# Altium integrated library Linear Technology Power Management Hot Swap Controllers.IntLib: 992 symbols (part 23 of 93)
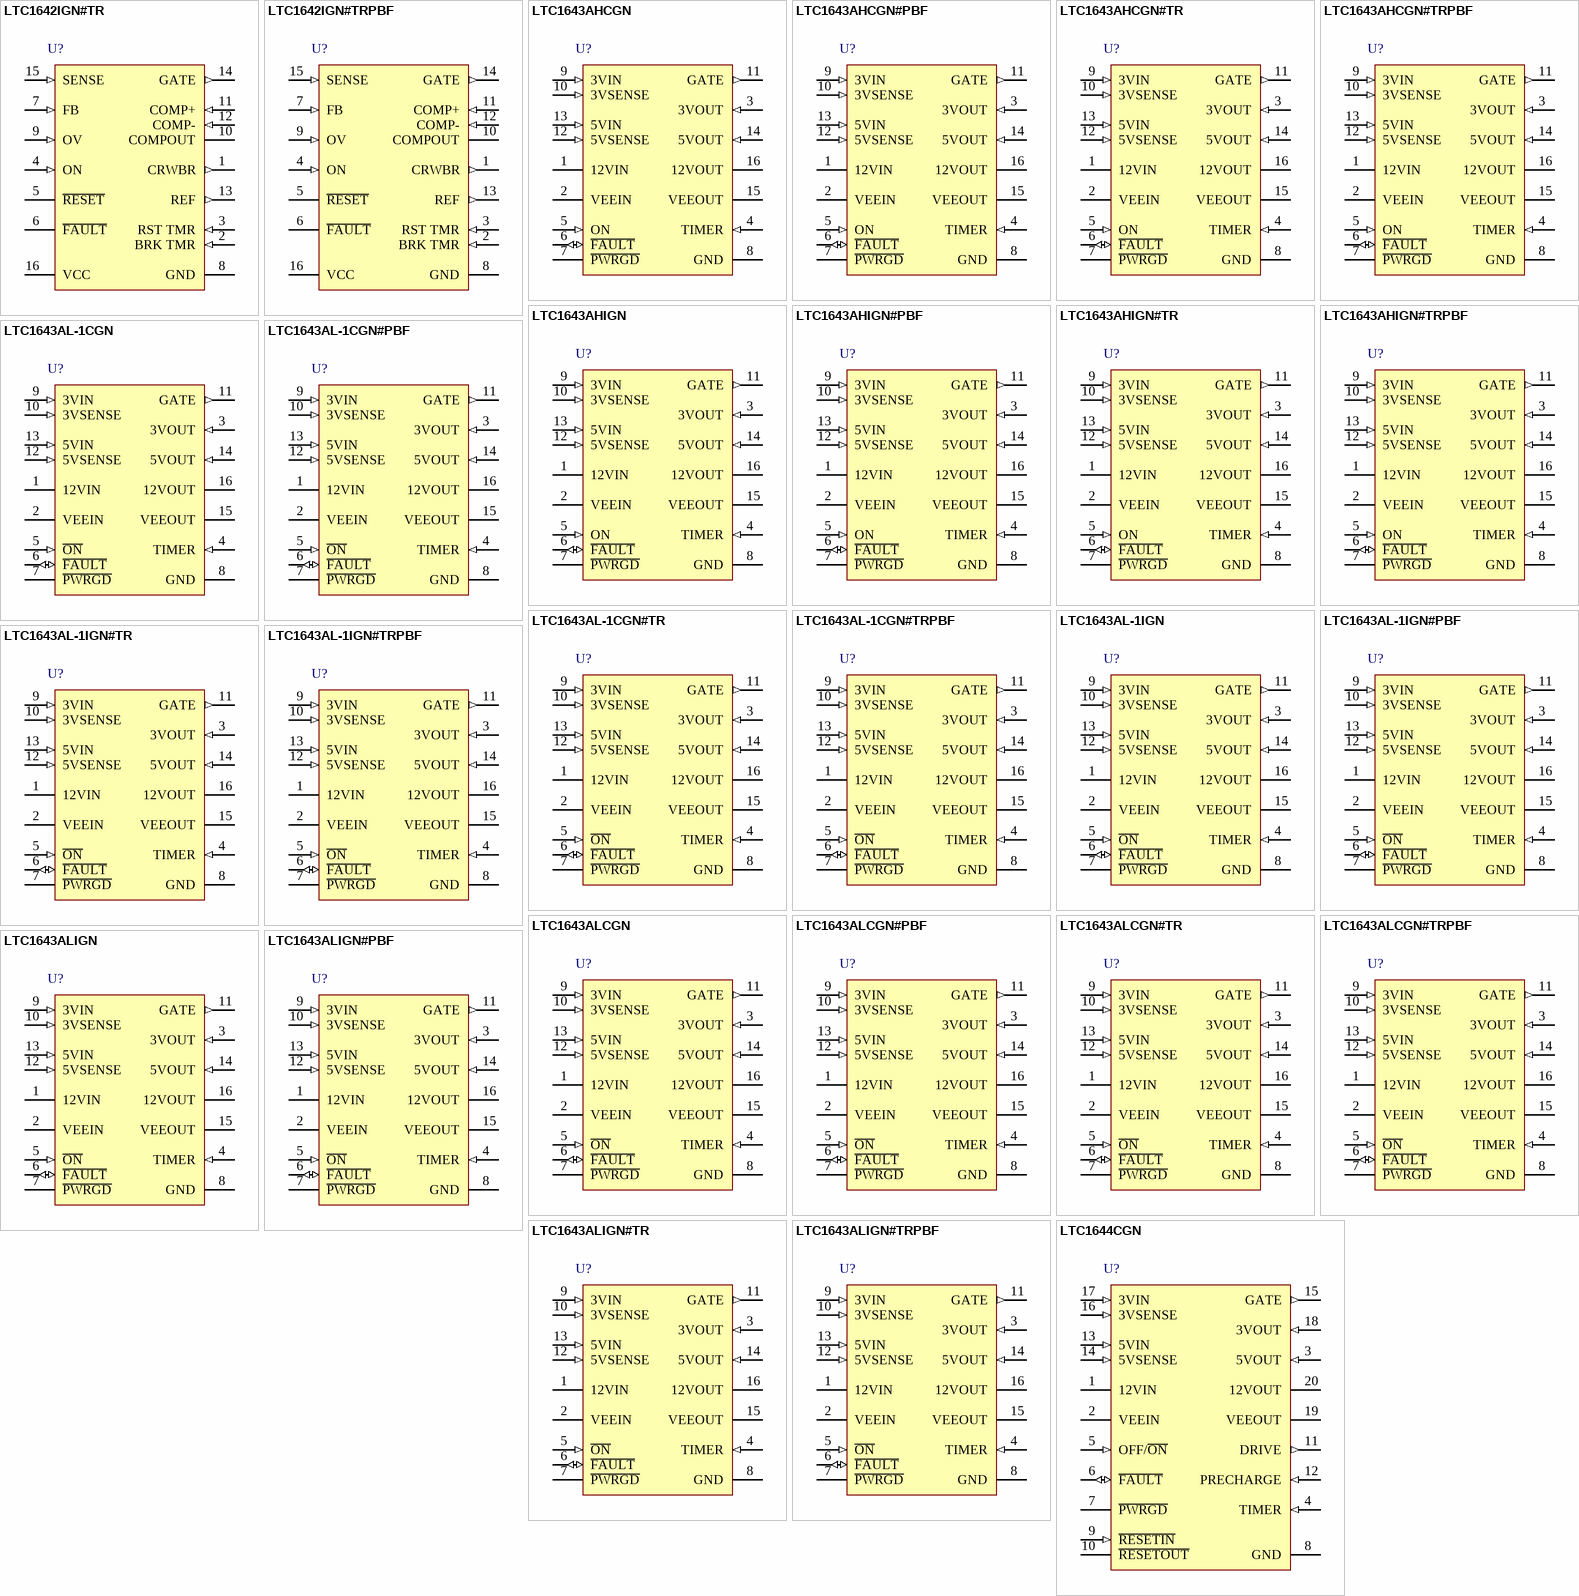
[diagram p59: symbols LTC1642IGN#TR to LTC1644CGN]

## LTC1643AHIGN#TR
designator U?
PCI-Bus Hot Swap Controller, 3.3 V, 5 V, +/-12 V Vin, 16-pin SOP (GN-16), -40 to 85 degC, Tape and Reel; Manufacturer: Linear Technology; PartNumber: LTC1643AHIGN#TR; Active Limiting: yes; Circuit Breaker Accuracy(%): 24.5; Circuit Breaker Threshold: 53 mV; Circuit Breakers(#): 4; Extended Temp: C, I; Fast Comparator: no; In-Rush Current: Active; DatasheetVersion: Rev. B; PackageVersion: Rev. B, 03/2012; PackageReference: GN-16; PackageDescription: 16-Pin Plastic SSOP, Body 4.9 x 3.9 mm, Pitch 0.635 mm; Supplier 1: Digi-Key; Supplier Part Number 1: LTC1643AHIGN#TR-ND; Fault: yes; Foldback: yes; Packing: Tape and Reel; Power Good: yes; Reset: no; RoHS: FALSE; Vin Range: 3.3 V, 5 V, +/-12 V; Mounting Technology: Surface Mount; ComponentLink1Description: Manufacturer URL; ComponentLink1URL: http://www.linear.com/; ComponentLink2Description: Datasheet; ComponentLink2URL: http://cds.linear.com/docs/en/datasheet/1643afb.pdf; ComponentLink3Description: Package Specification; ComponentLink3URL: http://cds.linear.com/docs/en/packaging/05081641_B_GN16.pdf
footprint LT-GN-16_N (SOP, 16-Leads, Body 5x4mm, Pitch 0.635mm, IPC Medium Density)
footprint LT-GN-16_L (SOP, 16-Leads, Body 5x4mm, Pitch 0.635mm, IPC High Density)
footprint LT-GN-16_M (SOP, 16-Leads, Body 5x4mm, Pitch 0.635mm, IPC Low Density)
pins: 1 12VIN (power) "12V Supply Input. It powers all the chip's internal circuitry. A 0.5ohm switch is connected between 12VIN and 12VOUT with a foldback current limit. An undervoltage lockout circuit prevents the switches from turning o(See Datasheet)", 2 VEEIN (power) "-12V Supply Input. A 1.2ohm switch is connected between VEEIN and VEEOUT with a foldback current limit.", 3 3VOUT (in) "Analog Input. Used to monitor the 3.3V output supply voltage. The P\W\R\G\D\ signal cannot go low until the 3VOUT pin exceeds 2.9V typically.", 4 TIMER (in) "Analog Current Fault Inhibit Timing Input. Connect a capacitor from TIMER to GND. With the chip turned off (ON = GND or O\N\ = High) or the internal circuit breaker tripped (F\A\U\L\T\ = GND), the TIMER pin is internally (See Datasheet)", 5 ON (in) "Digital Input.", 6 ~{FAULT} (io) "Open-Drain Digital I/O. F\A\U\L\T\ is pulled low when a current limit fault is detected. Current limit faults are ignored while the voltage at the TIMER pin is less than 12VIN - 0.9V. Once the TIMER cycle is complete, (See Datasheet)", 7 ~{PWRGD} (oc) "Open-Drain Digital Power-Good Output. P\W\R\G\D\ remains low while V12VOUT >= 11.4V, V3VOUT >= 3V, V5VOUT >= 4.75V and VEEOUT =< - 10.8V. The LTC1643AL-1 has the power good comparators connected to the 12VOUT and VEEOUT pins (See Datasheet)", 8 GND (power) "Chip Ground.", 9 3VIN (in) "3.3V Supply Sense Input. An undervoltage lockout circuit prevents the switches from turning on when the voltage at the 3VIN pin is less than 2.5V typically. If no 3.3V input supply is available, tie 3VIN to the 5VIN pin.", 10 3VSENSE (in) "The 3.3V Current Limit Set Pin. With a sense resistor placed in the supply path between 3VIN and 3VSENSE, the GATE pin voltage will be adjusted to maintain a constant voltage across the sense resistor and a constant current (See Datasheet)", 11 GATE (out) "High Side Gate Drive for the External N-Channel Pass Transistors. Requires an external series RC network for the current limit loop compensation and setting the minimum ramp-up rate. During power-up, the slope of the voltage (See Datasheet)", 12 5VSENSE (in) "5V Current Limit Set Pin. With a sense resistor placed in the supply path between 5VIN and 5VSENSE, the GATE pin voltage will be adjusted to maintain a constant voltage across the sense resistor and a constant current (See Datasheet)", 13 5VIN (in) "Analog Input. Used to monitor the 5V input supply voltage. An undervoltage lockout circuit prevents the switches from turning on when the voltage at the 5VIN pin is less than 2.5V typically.", 14 5VOUT (in) "Analog Input. Used to monitor the 5V output supply voltage. The P\W\R\G\D\ signal cannot go low until the 5VOUT pin exceeds 4.65V typically.", 15 VEEOUT (power) "-12V Supply Output. A 1.2ohm switch is connected between VEEIN and VEEOUT. VEEOUT must exceed -10.8V before the P\W\R\G\D\ signal can go high on the LTC1643AH and LTC1643AL.", 16 12VOUT (power) "12V Supply Output. A 0.5ohm switch is connected between 12VIN and 12VOUT. 12VOUT must exceed 11.4V before the P\W\R\G\D\ signal can go high on the LTC1643AH and LTC1643AL."

## LTC1643AHIGN#TRPBF
designator U?
PCI-Bus Hot Swap Controller, 3.3 V, 5 V, +/-12 V Vin, 16-pin SOP (GN-16), -40 to 85 degC, Pb-Free, Tape and Reel; Manufacturer: Linear Technology; PartNumber: LTC1643AHIGN#TRPBF; Active Limiting: yes; Circuit Breaker Accuracy(%): 24.5; Circuit Breaker Threshold: 53 mV; Circuit Breakers(#): 4; Extended Temp: C, I; Fast Comparator: no; In-Rush Current: Active; DatasheetVersion: Rev. B; PackageVersion: Rev. B, 03/2012; PackageReference: GN-16; PackageDescription: 16-Pin Plastic SSOP, Body 4.9 x 3.9 mm, Pitch 0.635 mm; Supplier 1: Digi-Key; Supplier Part Number 1: LTC1643AHIGN#TRPBF-ND; Fault: yes; Foldback: yes; Packing: Tape and Reel; Power Good: yes; Reset: no; RoHS: TRUE; Vin Range: 3.3 V, 5 V, +/-12 V; Mounting Technology: Surface Mount; ComponentLink1Description: Manufacturer URL; ComponentLink1URL: http://www.linear.com/; ComponentLink2Description: Datasheet; ComponentLink2URL: http://cds.linear.com/docs/en/datasheet/1643afb.pdf; ComponentLink3Description: Package Specification; ComponentLink3URL: http://cds.linear.com/docs/en/packaging/05081641_B_GN16.pdf
footprint LT-GN-16_N (SOP, 16-Leads, Body 5x4mm, Pitch 0.635mm, IPC Medium Density)
footprint LT-GN-16_L (SOP, 16-Leads, Body 5x4mm, Pitch 0.635mm, IPC High Density)
footprint LT-GN-16_M (SOP, 16-Leads, Body 5x4mm, Pitch 0.635mm, IPC Low Density)
pins: 1 12VIN (power) "12V Supply Input. It powers all the chip's internal circuitry. A 0.5ohm switch is connected between 12VIN and 12VOUT with a foldback current limit. An undervoltage lockout circuit prevents the switches from turning o(See Datasheet)", 2 VEEIN (power) "-12V Supply Input. A 1.2ohm switch is connected between VEEIN and VEEOUT with a foldback current limit.", 3 3VOUT (in) "Analog Input. Used to monitor the 3.3V output supply voltage. The P\W\R\G\D\ signal cannot go low until the 3VOUT pin exceeds 2.9V typically.", 4 TIMER (in) "Analog Current Fault Inhibit Timing Input. Connect a capacitor from TIMER to GND. With the chip turned off (ON = GND or O\N\ = High) or the internal circuit breaker tripped (F\A\U\L\T\ = GND), the TIMER pin is internally (See Datasheet)", 5 ON (in) "Digital Input.", 6 ~{FAULT} (io) "Open-Drain Digital I/O. F\A\U\L\T\ is pulled low when a current limit fault is detected. Current limit faults are ignored while the voltage at the TIMER pin is less than 12VIN - 0.9V. Once the TIMER cycle is complete, (See Datasheet)", 7 ~{PWRGD} (oc) "Open-Drain Digital Power-Good Output. P\W\R\G\D\ remains low while V12VOUT >= 11.4V, V3VOUT >= 3V, V5VOUT >= 4.75V and VEEOUT =< - 10.8V. The LTC1643AL-1 has the power good comparators connected to the 12VOUT and VEEOUT pins (See Datasheet)", 8 GND (power) "Chip Ground.", 9 3VIN (in) "3.3V Supply Sense Input. An undervoltage lockout circuit prevents the switches from turning on when the voltage at the 3VIN pin is less than 2.5V typically. If no 3.3V input supply is available, tie 3VIN to the 5VIN pin.", 10 3VSENSE (in) "The 3.3V Current Limit Set Pin. With a sense resistor placed in the supply path between 3VIN and 3VSENSE, the GATE pin voltage will be adjusted to maintain a constant voltage across the sense resistor and a constant current (See Datasheet)", 11 GATE (out) "High Side Gate Drive for the External N-Channel Pass Transistors. Requires an external series RC network for the current limit loop compensation and setting the minimum ramp-up rate. During power-up, the slope of the voltage (See Datasheet)", 12 5VSENSE (in) "5V Current Limit Set Pin. With a sense resistor placed in the supply path between 5VIN and 5VSENSE, the GATE pin voltage will be adjusted to maintain a constant voltage across the sense resistor and a constant current (See Datasheet)", 13 5VIN (in) "Analog Input. Used to monitor the 5V input supply voltage. An undervoltage lockout circuit prevents the switches from turning on when the voltage at the 5VIN pin is less than 2.5V typically.", 14 5VOUT (in) "Analog Input. Used to monitor the 5V output supply voltage. The P\W\R\G\D\ signal cannot go low until the 5VOUT pin exceeds 4.65V typically.", 15 VEEOUT (power) "-12V Supply Output. A 1.2ohm switch is connected between VEEIN and VEEOUT. VEEOUT must exceed -10.8V before the P\W\R\G\D\ signal can go high on the LTC1643AH and LTC1643AL.", 16 12VOUT (power) "12V Supply Output. A 0.5ohm switch is connected between 12VIN and 12VOUT. 12VOUT must exceed 11.4V before the P\W\R\G\D\ signal can go high on the LTC1643AH and LTC1643AL."

## LTC1643AL-1CGN
designator U?
PCI-Bus Hot Swap Controller, 3.3 V, 5 V, +/-12 V Vin, 16-pin SOP (GN-16), 0 to 70 degC; Manufacturer: Linear Technology; PartNumber: LTC1643AL-1CGN; Active Limiting: yes; Circuit Breaker Accuracy(%): 24.5; Circuit Breaker Threshold: 53 mV; Circuit Breakers(#): 4; Extended Temp: C, I; Fast Comparator: no; In-Rush Current: Active; DatasheetVersion: Rev. B; PackageVersion: Rev. B, 03/2012; PackageReference: GN-16; PackageDescription: 16-Pin Plastic SSOP, Body 4.9 x 3.9 mm, Pitch 0.635 mm; Supplier 1: Digi-Key; Supplier Part Number 1: LTC1643AL-1CGN-ND; Fault: yes; Foldback: yes; Power Good: yes; Reset: no; RoHS: FALSE; Vin Range: 3.3 V, 5 V, +/-12 V; Mounting Technology: Surface Mount; ComponentLink1Description: Manufacturer URL; ComponentLink1URL: http://www.linear.com/; ComponentLink2Description: Datasheet; ComponentLink2URL: http://cds.linear.com/docs/en/datasheet/1643afb.pdf; ComponentLink3Description: Package Specification; ComponentLink3URL: http://cds.linear.com/docs/en/packaging/05081641_B_GN16.pdf
footprint LT-GN-16_N (SOP, 16-Leads, Body 5x4mm, Pitch 0.635mm, IPC Medium Density)
footprint LT-GN-16_L (SOP, 16-Leads, Body 5x4mm, Pitch 0.635mm, IPC High Density)
footprint LT-GN-16_M (SOP, 16-Leads, Body 5x4mm, Pitch 0.635mm, IPC Low Density)
pins: 1 12VIN (power) "12V Supply Input. It powers all the chip's internal circuitry. A 0.5ohm switch is connected between 12VIN and 12VOUT with a foldback current limit. An undervoltage lockout circuit prevents the switches from turning o(See Datasheet)", 2 VEEIN (power) "-12V Supply Input. A 1.2ohm switch is connected between VEEIN and VEEOUT with a foldback current limit.", 3 3VOUT (in) "Analog Input. Used to monitor the 3.3V output supply voltage. The P\W\R\G\D\ signal cannot go low until the 3VOUT pin exceeds 2.9V typically.", 4 TIMER (in) "Analog Current Fault Inhibit Timing Input. Connect a capacitor from TIMER to GND. With the chip turned off (ON = GND or O\N\ = High) or the internal circuit breaker tripped (F\A\U\L\T\ = GND), the TIMER pin is internally (See Datasheet)", 5 ~{ON} (in) "Digital Input.The LTC1643AL/LTC1643AL-1 have an active low enable, O\N\, and the LTC1643AH has an active high enable, ON. When the ON pin is pulled high or the O\N\ pin pulled low, the GATE pin is pulled high by a 62uA (See Datasheet)", 6 ~{FAULT} (io) "Open-Drain Digital I/O. F\A\U\L\T\ is pulled low when a current limit fault is detected. Current limit faults are ignored while the voltage at the TIMER pin is less than 12VIN - 0.9V. Once the TIMER cycle is complete, (See Datasheet)", 7 ~{PWRGD} (oc) "Open-Drain Digital Power-Good Output. P\W\R\G\D\ remains low while V12VOUT>= 11.4V, V3VOUT>= 3V, V5VOUT >= 4.75V and VEEOUT =< -10.8V. The LTC1643AL-1 has the power good comparators connected to the 12VOUT and VEEOUT pins (See Datasheet)", 8 GND (power) "Chip Ground.", 9 3VIN (in) "3.3V Supply Sense Input. An undervoltage lockout circuit prevents the switches from turning on when the voltage at the 3VIN pin is less than 2.5V typically. If no 3.3V input supply is available, tie 3VIN to the 5VIN pin.", 10 3VSENSE (in) "The 3.3V Current Limit Set Pin. With a sense resistor placed in the supply path between 3VIN and 3VSENSE, the GATE pin voltage will be adjusted to maintain a constant voltage across the sense resistor and a constant current (See Datasheet)", 11 GATE (out) "High Side Gate Drive for the External N-Channel Pass Transistors. Requires an external series RC network for the current limit loop compensation and setting the minimum ramp-up rate. During power-up, the slope of the voltage (See Datasheet)", 12 5VSENSE (in) "5V Current Limit Set Pin. With a sense resistor placed in the supply path between 5VIN and 5VSENSE, the GATE pin voltage will be adjusted to maintain a constant voltage across the sense resistor and a constant current (See Datasheet)", 13 5VIN (in) "Analog Input. Used to monitor the 5V input supply voltage. An undervoltage lockout circuit prevents the switches from turning on when the voltage at the 5VIN pin is less than 2.5V typically.", 14 5VOUT (in) "Analog Input. Used to monitor the 5V output supply voltage. The P\W\R\G\D\ signal cannot go low until the 5VOUT pin exceeds 4.65V typically.", 15 VEEOUT (power) "-12V Supply Output. A 1.2ohm switch is connected between VEEIN and VEEOUT. VEEOUT must exceed -10.8V before the P\W\R\G\D\ signal can go high on the LTC1643AH and LTC1643AL.", 16 12VOUT (power) "12V Supply Output. A 0.5ohm switch is connected between 12VIN and 12VOUT. 12VOUT must exceed 11.4V before the P\W\R\G\D\ signal can go high on the LTC1643AH and LTC1643AL."

## LTC1643AL-1CGN#PBF
designator U?
PCI-Bus Hot Swap Controller, 3.3 V, 5 V, +/-12 V Vin, 16-pin SOP (GN-16), 0 to 70 degC, Pb-Free; Manufacturer: Linear Technology; PartNumber: LTC1643AL-1CGN#PBF; Active Limiting: yes; Circuit Breaker Accuracy(%): 24.5; Circuit Breaker Threshold: 53 mV; Circuit Breakers(#): 4; Extended Temp: C, I; Fast Comparator: no; In-Rush Current: Active; DatasheetVersion: Rev. B; PackageVersion: Rev. B, 03/2012; PackageReference: GN-16; PackageDescription: 16-Pin Plastic SSOP, Body 4.9 x 3.9 mm, Pitch 0.635 mm; Supplier 1: Digi-Key; Supplier Part Number 1: LTC1643AL-1CGN#PBF-ND; Supplier 2: Farnell; Supplier Part Number 2: 2295319; Fault: yes; Foldback: yes; Power Good: yes; Reset: no; RoHS: TRUE; Vin Range: 3.3 V, 5 V, +/-12 V; Mounting Technology: Surface Mount; ComponentLink1Description: Manufacturer URL; ComponentLink1URL: http://www.linear.com/; ComponentLink2Description: Datasheet; ComponentLink2URL: http://cds.linear.com/docs/en/datasheet/1643afb.pdf; ComponentLink3Description: Package Specification; ComponentLink3URL: http://cds.linear.com/docs/en/packaging/05081641_B_GN16.pdf
footprint LT-GN-16_N (SOP, 16-Leads, Body 5x4mm, Pitch 0.635mm, IPC Medium Density)
footprint LT-GN-16_L (SOP, 16-Leads, Body 5x4mm, Pitch 0.635mm, IPC High Density)
footprint LT-GN-16_M (SOP, 16-Leads, Body 5x4mm, Pitch 0.635mm, IPC Low Density)
pins: 1 12VIN (power) "12V Supply Input. It powers all the chip's internal circuitry. A 0.5ohm switch is connected between 12VIN and 12VOUT with a foldback current limit. An undervoltage lockout circuit prevents the switches from turning o(See Datasheet)", 2 VEEIN (power) "-12V Supply Input. A 1.2ohm switch is connected between VEEIN and VEEOUT with a foldback current limit.", 3 3VOUT (in) "Analog Input. Used to monitor the 3.3V output supply voltage. The P\W\R\G\D\ signal cannot go low until the 3VOUT pin exceeds 2.9V typically.", 4 TIMER (in) "Analog Current Fault Inhibit Timing Input. Connect a capacitor from TIMER to GND. With the chip turned off (ON = GND or O\N\ = High) or the internal circuit breaker tripped (F\A\U\L\T\ = GND), the TIMER pin is internally (See Datasheet)", 5 ~{ON} (in) "Digital Input.The LTC1643AL/LTC1643AL-1 have an active low enable, O\N\, and the LTC1643AH has an active high enable, ON. When the ON pin is pulled high or the O\N\ pin pulled low, the GATE pin is pulled high by a 62uA (See Datasheet)", 6 ~{FAULT} (io) "Open-Drain Digital I/O. F\A\U\L\T\ is pulled low when a current limit fault is detected. Current limit faults are ignored while the voltage at the TIMER pin is less than 12VIN - 0.9V. Once the TIMER cycle is complete, (See Datasheet)", 7 ~{PWRGD} (oc) "Open-Drain Digital Power-Good Output. P\W\R\G\D\ remains low while V12VOUT>= 11.4V, V3VOUT>= 3V, V5VOUT >= 4.75V and VEEOUT =< -10.8V. The LTC1643AL-1 has the power good comparators connected to the 12VOUT and VEEOUT pins (See Datasheet)", 8 GND (power) "Chip Ground.", 9 3VIN (in) "3.3V Supply Sense Input. An undervoltage lockout circuit prevents the switches from turning on when the voltage at the 3VIN pin is less than 2.5V typically. If no 3.3V input supply is available, tie 3VIN to the 5VIN pin.", 10 3VSENSE (in) "The 3.3V Current Limit Set Pin. With a sense resistor placed in the supply path between 3VIN and 3VSENSE, the GATE pin voltage will be adjusted to maintain a constant voltage across the sense resistor and a constant current (See Datasheet)", 11 GATE (out) "High Side Gate Drive for the External N-Channel Pass Transistors. Requires an external series RC network for the current limit loop compensation and setting the minimum ramp-up rate. During power-up, the slope of the voltage (See Datasheet)", 12 5VSENSE (in) "5V Current Limit Set Pin. With a sense resistor placed in the supply path between 5VIN and 5VSENSE, the GATE pin voltage will be adjusted to maintain a constant voltage across the sense resistor and a constant current (See Datasheet)", 13 5VIN (in) "Analog Input. Used to monitor the 5V input supply voltage. An undervoltage lockout circuit prevents the switches from turning on when the voltage at the 5VIN pin is less than 2.5V typically.", 14 5VOUT (in) "Analog Input. Used to monitor the 5V output supply voltage. The P\W\R\G\D\ signal cannot go low until the 5VOUT pin exceeds 4.65V typically.", 15 VEEOUT (power) "-12V Supply Output. A 1.2ohm switch is connected between VEEIN and VEEOUT. VEEOUT must exceed -10.8V before the P\W\R\G\D\ signal can go high on the LTC1643AH and LTC1643AL.", 16 12VOUT (power) "12V Supply Output. A 0.5ohm switch is connected between 12VIN and 12VOUT. 12VOUT must exceed 11.4V before the P\W\R\G\D\ signal can go high on the LTC1643AH and LTC1643AL."

## LTC1643AL-1CGN#TR
designator U?
PCI-Bus Hot Swap Controller, 3.3 V, 5 V, +/-12 V Vin, 16-pin SOP (GN-16), 0 to 70 degC, Tape and Reel; Manufacturer: Linear Technology; PartNumber: LTC1643AL-1CGN#TR; Active Limiting: yes; Circuit Breaker Accuracy(%): 24.5; Circuit Breaker Threshold: 53 mV; Circuit Breakers(#): 4; Extended Temp: C, I; Fast Comparator: no; In-Rush Current: Active; DatasheetVersion: Rev. B; PackageVersion: Rev. B, 03/2012; PackageReference: GN-16; PackageDescription: 16-Pin Plastic SSOP, Body 4.9 x 3.9 mm, Pitch 0.635 mm; Supplier 1: Digi-Key; Supplier Part Number 1: LTC1643AL-1CGN#TR-ND; Fault: yes; Foldback: yes; Packing: Tape and Reel; Power Good: yes; Reset: no; RoHS: FALSE; Vin Range: 3.3 V, 5 V, +/-12 V; Mounting Technology: Surface Mount; ComponentLink1Description: Manufacturer URL; ComponentLink1URL: http://www.linear.com/; ComponentLink2Description: Datasheet; ComponentLink2URL: http://cds.linear.com/docs/en/datasheet/1643afb.pdf; ComponentLink3Description: Package Specification; ComponentLink3URL: http://cds.linear.com/docs/en/packaging/05081641_B_GN16.pdf
footprint LT-GN-16_N (SOP, 16-Leads, Body 5x4mm, Pitch 0.635mm, IPC Medium Density)
footprint LT-GN-16_L (SOP, 16-Leads, Body 5x4mm, Pitch 0.635mm, IPC High Density)
footprint LT-GN-16_M (SOP, 16-Leads, Body 5x4mm, Pitch 0.635mm, IPC Low Density)
pins: 1 12VIN (power) "12V Supply Input. It powers all the chip's internal circuitry. A 0.5ohm switch is connected between 12VIN and 12VOUT with a foldback current limit. An undervoltage lockout circuit prevents the switches from turning o(See Datasheet)", 2 VEEIN (power) "-12V Supply Input. A 1.2ohm switch is connected between VEEIN and VEEOUT with a foldback current limit.", 3 3VOUT (in) "Analog Input. Used to monitor the 3.3V output supply voltage. The P\W\R\G\D\ signal cannot go low until the 3VOUT pin exceeds 2.9V typically.", 4 TIMER (in) "Analog Current Fault Inhibit Timing Input. Connect a capacitor from TIMER to GND. With the chip turned off (ON = GND or O\N\ = High) or the internal circuit breaker tripped (F\A\U\L\T\ = GND), the TIMER pin is internally (See Datasheet)", 5 ~{ON} (in) "Digital Input.The LTC1643AL/LTC1643AL-1 have an active low enable, O\N\, and the LTC1643AH has an active high enable, ON. When the ON pin is pulled high or the O\N\ pin pulled low, the GATE pin is pulled high by a 62uA (See Datasheet)", 6 ~{FAULT} (io) "Open-Drain Digital I/O. F\A\U\L\T\ is pulled low when a current limit fault is detected. Current limit faults are ignored while the voltage at the TIMER pin is less than 12VIN - 0.9V. Once the TIMER cycle is complete, (See Datasheet)", 7 ~{PWRGD} (oc) "Open-Drain Digital Power-Good Output. P\W\R\G\D\ remains low while V12VOUT>= 11.4V, V3VOUT>= 3V, V5VOUT >= 4.75V and VEEOUT =< -10.8V. The LTC1643AL-1 has the power good comparators connected to the 12VOUT and VEEOUT pins (See Datasheet)", 8 GND (power) "Chip Ground.", 9 3VIN (in) "3.3V Supply Sense Input. An undervoltage lockout circuit prevents the switches from turning on when the voltage at the 3VIN pin is less than 2.5V typically. If no 3.3V input supply is available, tie 3VIN to the 5VIN pin.", 10 3VSENSE (in) "The 3.3V Current Limit Set Pin. With a sense resistor placed in the supply path between 3VIN and 3VSENSE, the GATE pin voltage will be adjusted to maintain a constant voltage across the sense resistor and a constant current (See Datasheet)", 11 GATE (out) "High Side Gate Drive for the External N-Channel Pass Transistors. Requires an external series RC network for the current limit loop compensation and setting the minimum ramp-up rate. During power-up, the slope of the voltage (See Datasheet)", 12 5VSENSE (in) "5V Current Limit Set Pin. With a sense resistor placed in the supply path between 5VIN and 5VSENSE, the GATE pin voltage will be adjusted to maintain a constant voltage across the sense resistor and a constant current (See Datasheet)", 13 5VIN (in) "Analog Input. Used to monitor the 5V input supply voltage. An undervoltage lockout circuit prevents the switches from turning on when the voltage at the 5VIN pin is less than 2.5V typically.", 14 5VOUT (in) "Analog Input. Used to monitor the 5V output supply voltage. The P\W\R\G\D\ signal cannot go low until the 5VOUT pin exceeds 4.65V typically.", 15 VEEOUT (power) "-12V Supply Output. A 1.2ohm switch is connected between VEEIN and VEEOUT. VEEOUT must exceed -10.8V before the P\W\R\G\D\ signal can go high on the LTC1643AH and LTC1643AL.", 16 12VOUT (power) "12V Supply Output. A 0.5ohm switch is connected between 12VIN and 12VOUT. 12VOUT must exceed 11.4V before the P\W\R\G\D\ signal can go high on the LTC1643AH and LTC1643AL."

## LTC1643AL-1CGN#TRPBF
designator U?
PCI-Bus Hot Swap Controller, 3.3 V, 5 V, +/-12 V Vin, 16-pin SOP (GN-16), 0 to 70 degC, Pb-Free, Tape and Reel; Manufacturer: Linear Technology; PartNumber: LTC1643AL-1CGN#TRPBF; Active Limiting: yes; Circuit Breaker Accuracy(%): 24.5; Circuit Breaker Threshold: 53 mV; Circuit Breakers(#): 4; Extended Temp: C, I; Fast Comparator: no; In-Rush Current: Active; DatasheetVersion: Rev. B; PackageVersion: Rev. B, 03/2012; PackageReference: GN-16; PackageDescription: 16-Pin Plastic SSOP, Body 4.9 x 3.9 mm, Pitch 0.635 mm; Supplier 1: Digi-Key; Supplier Part Number 1: LTC1643AL-1CGN#TRPBF-ND; Fault: yes; Foldback: yes; Packing: Tape and Reel; Power Good: yes; Reset: no; RoHS: TRUE; Vin Range: 3.3 V, 5 V, +/-12 V; Mounting Technology: Surface Mount; ComponentLink1Description: Manufacturer URL; ComponentLink1URL: http://www.linear.com/; ComponentLink2Description: Datasheet; ComponentLink2URL: http://cds.linear.com/docs/en/datasheet/1643afb.pdf; ComponentLink3Description: Package Specification; ComponentLink3URL: http://cds.linear.com/docs/en/packaging/05081641_B_GN16.pdf
footprint LT-GN-16_N (SOP, 16-Leads, Body 5x4mm, Pitch 0.635mm, IPC Medium Density)
footprint LT-GN-16_L (SOP, 16-Leads, Body 5x4mm, Pitch 0.635mm, IPC High Density)
footprint LT-GN-16_M (SOP, 16-Leads, Body 5x4mm, Pitch 0.635mm, IPC Low Density)
pins: 1 12VIN (power) "12V Supply Input. It powers all the chip's internal circuitry. A 0.5ohm switch is connected between 12VIN and 12VOUT with a foldback current limit. An undervoltage lockout circuit prevents the switches from turning o(See Datasheet)", 2 VEEIN (power) "-12V Supply Input. A 1.2ohm switch is connected between VEEIN and VEEOUT with a foldback current limit.", 3 3VOUT (in) "Analog Input. Used to monitor the 3.3V output supply voltage. The P\W\R\G\D\ signal cannot go low until the 3VOUT pin exceeds 2.9V typically.", 4 TIMER (in) "Analog Current Fault Inhibit Timing Input. Connect a capacitor from TIMER to GND. With the chip turned off (ON = GND or O\N\ = High) or the internal circuit breaker tripped (F\A\U\L\T\ = GND), the TIMER pin is internally (See Datasheet)", 5 ~{ON} (in) "Digital Input.The LTC1643AL/LTC1643AL-1 have an active low enable, O\N\, and the LTC1643AH has an active high enable, ON. When the ON pin is pulled high or the O\N\ pin pulled low, the GATE pin is pulled high by a 62uA (See Datasheet)", 6 ~{FAULT} (io) "Open-Drain Digital I/O. F\A\U\L\T\ is pulled low when a current limit fault is detected. Current limit faults are ignored while the voltage at the TIMER pin is less than 12VIN - 0.9V. Once the TIMER cycle is complete, (See Datasheet)", 7 ~{PWRGD} (oc) "Open-Drain Digital Power-Good Output. P\W\R\G\D\ remains low while V12VOUT>= 11.4V, V3VOUT>= 3V, V5VOUT >= 4.75V and VEEOUT =< -10.8V. The LTC1643AL-1 has the power good comparators connected to the 12VOUT and VEEOUT pins (See Datasheet)", 8 GND (power) "Chip Ground.", 9 3VIN (in) "3.3V Supply Sense Input. An undervoltage lockout circuit prevents the switches from turning on when the voltage at the 3VIN pin is less than 2.5V typically. If no 3.3V input supply is available, tie 3VIN to the 5VIN pin.", 10 3VSENSE (in) "The 3.3V Current Limit Set Pin. With a sense resistor placed in the supply path between 3VIN and 3VSENSE, the GATE pin voltage will be adjusted to maintain a constant voltage across the sense resistor and a constant current (See Datasheet)", 11 GATE (out) "High Side Gate Drive for the External N-Channel Pass Transistors. Requires an external series RC network for the current limit loop compensation and setting the minimum ramp-up rate. During power-up, the slope of the voltage (See Datasheet)", 12 5VSENSE (in) "5V Current Limit Set Pin. With a sense resistor placed in the supply path between 5VIN and 5VSENSE, the GATE pin voltage will be adjusted to maintain a constant voltage across the sense resistor and a constant current (See Datasheet)", 13 5VIN (in) "Analog Input. Used to monitor the 5V input supply voltage. An undervoltage lockout circuit prevents the switches from turning on when the voltage at the 5VIN pin is less than 2.5V typically.", 14 5VOUT (in) "Analog Input. Used to monitor the 5V output supply voltage. The P\W\R\G\D\ signal cannot go low until the 5VOUT pin exceeds 4.65V typically.", 15 VEEOUT (power) "-12V Supply Output. A 1.2ohm switch is connected between VEEIN and VEEOUT. VEEOUT must exceed -10.8V before the P\W\R\G\D\ signal can go high on the LTC1643AH and LTC1643AL.", 16 12VOUT (power) "12V Supply Output. A 0.5ohm switch is connected between 12VIN and 12VOUT. 12VOUT must exceed 11.4V before the P\W\R\G\D\ signal can go high on the LTC1643AH and LTC1643AL."

## LTC1643AL-1IGN
designator U?
PCI-Bus Hot Swap Controller, 3.3 V, 5 V, +/-12 V Vin, 16-pin SOP (GN-16), -40 to 85 degC; Manufacturer: Linear Technology; PartNumber: LTC1643AL-1IGN; Active Limiting: yes; Circuit Breaker Accuracy(%): 24.5; Circuit Breaker Threshold: 53 mV; Circuit Breakers(#): 4; Extended Temp: C, I; Fast Comparator: no; In-Rush Current: Active; DatasheetVersion: Rev. B; PackageVersion: Rev. B, 03/2012; PackageReference: GN-16; PackageDescription: 16-Pin Plastic SSOP, Body 4.9 x 3.9 mm, Pitch 0.635 mm; Supplier 1: Digi-Key; Supplier Part Number 1: LTC1643AL-1IGN-ND; Fault: yes; Foldback: yes; Power Good: yes; Reset: no; RoHS: FALSE; Vin Range: 3.3 V, 5 V, +/-12 V; Mounting Technology: Surface Mount; ComponentLink1Description: Manufacturer URL; ComponentLink1URL: http://www.linear.com/; ComponentLink2Description: Datasheet; ComponentLink2URL: http://cds.linear.com/docs/en/datasheet/1643afb.pdf; ComponentLink3Description: Package Specification; ComponentLink3URL: http://cds.linear.com/docs/en/packaging/05081641_B_GN16.pdf
footprint LT-GN-16_N (SOP, 16-Leads, Body 5x4mm, Pitch 0.635mm, IPC Medium Density)
footprint LT-GN-16_L (SOP, 16-Leads, Body 5x4mm, Pitch 0.635mm, IPC High Density)
footprint LT-GN-16_M (SOP, 16-Leads, Body 5x4mm, Pitch 0.635mm, IPC Low Density)
pins: 1 12VIN (power) "12V Supply Input. It powers all the chip's internal circuitry. A 0.5ohm switch is connected between 12VIN and 12VOUT with a foldback current limit. An undervoltage lockout circuit prevents the switches from turning o(See Datasheet)", 2 VEEIN (power) "-12V Supply Input. A 1.2ohm switch is connected between VEEIN and VEEOUT with a foldback current limit.", 3 3VOUT (in) "Analog Input. Used to monitor the 3.3V output supply voltage. The P\W\R\G\D\ signal cannot go low until the 3VOUT pin exceeds 2.9V typically.", 4 TIMER (in) "Analog Current Fault Inhibit Timing Input. Connect a capacitor from TIMER to GND. With the chip turned off (ON = GND or O\N\ = High) or the internal circuit breaker tripped (F\A\U\L\T\ = GND), the TIMER pin is internally (See Datasheet)", 5 ~{ON} (in) "Digital Input.The LTC1643AL/LTC1643AL-1 have an active low enable, O\N\, and the LTC1643AH has an active high enable, ON. When the ON pin is pulled high or the O\N\ pin pulled low, the GATE pin is pulled high by a 62uA (See Datasheet)", 6 ~{FAULT} (io) "Open-Drain Digital I/O. F\A\U\L\T\ is pulled low when a current limit fault is detected. Current limit faults are ignored while the voltage at the TIMER pin is less than 12VIN - 0.9V. Once the TIMER cycle is complete, (See Datasheet)", 7 ~{PWRGD} (oc) "Open-Drain Digital Power-Good Output. P\W\R\G\D\ remains low while V12VOUT>= 11.4V, V3VOUT>= 3V, V5VOUT >= 4.75V and VEEOUT =< -10.8V. The LTC1643AL-1 has the power good comparators connected to the 12VOUT and VEEOUT pins (See Datasheet)", 8 GND (power) "Chip Ground.", 9 3VIN (in) "3.3V Supply Sense Input. An undervoltage lockout circuit prevents the switches from turning on when the voltage at the 3VIN pin is less than 2.5V typically. If no 3.3V input supply is available, tie 3VIN to the 5VIN pin.", 10 3VSENSE (in) "The 3.3V Current Limit Set Pin. With a sense resistor placed in the supply path between 3VIN and 3VSENSE, the GATE pin voltage will be adjusted to maintain a constant voltage across the sense resistor and a constant current (See Datasheet)", 11 GATE (out) "High Side Gate Drive for the External N-Channel Pass Transistors. Requires an external series RC network for the current limit loop compensation and setting the minimum ramp-up rate. During power-up, the slope of the voltage (See Datasheet)", 12 5VSENSE (in) "5V Current Limit Set Pin. With a sense resistor placed in the supply path between 5VIN and 5VSENSE, the GATE pin voltage will be adjusted to maintain a constant voltage across the sense resistor and a constant current (See Datasheet)", 13 5VIN (in) "Analog Input. Used to monitor the 5V input supply voltage. An undervoltage lockout circuit prevents the switches from turning on when the voltage at the 5VIN pin is less than 2.5V typically.", 14 5VOUT (in) "Analog Input. Used to monitor the 5V output supply voltage. The P\W\R\G\D\ signal cannot go low until the 5VOUT pin exceeds 4.65V typically.", 15 VEEOUT (power) "-12V Supply Output. A 1.2ohm switch is connected between VEEIN and VEEOUT. VEEOUT must exceed -10.8V before the P\W\R\G\D\ signal can go high on the LTC1643AH and LTC1643AL.", 16 12VOUT (power) "12V Supply Output. A 0.5ohm switch is connected between 12VIN and 12VOUT. 12VOUT must exceed 11.4V before the P\W\R\G\D\ signal can go high on the LTC1643AH and LTC1643AL."

## LTC1643AL-1IGN#PBF
designator U?
PCI-Bus Hot Swap Controller, 3.3 V, 5 V, +/-12 V Vin, 16-pin SOP (GN-16), -40 to 85 degC, Pb-Free; Manufacturer: Linear Technology; PartNumber: LTC1643AL-1IGN#PBF; Active Limiting: yes; Circuit Breaker Accuracy(%): 24.5; Circuit Breaker Threshold: 53 mV; Circuit Breakers(#): 4; Extended Temp: C, I; Fast Comparator: no; In-Rush Current: Active; DatasheetVersion: Rev. B; PackageVersion: Rev. B, 03/2012; PackageReference: GN-16; PackageDescription: 16-Pin Plastic SSOP, Body 4.9 x 3.9 mm, Pitch 0.635 mm; Supplier 1: Digi-Key; Supplier Part Number 1: LTC1643AL-1IGN#PBF-ND; Supplier 2: Newark; Supplier Part Number 2: 56M2797; Fault: yes; Foldback: yes; Power Good: yes; Reset: no; RoHS: TRUE; Vin Range: 3.3 V, 5 V, +/-12 V; Mounting Technology: Surface Mount; ComponentLink1Description: Manufacturer URL; ComponentLink1URL: http://www.linear.com/; ComponentLink2Description: Datasheet; ComponentLink2URL: http://cds.linear.com/docs/en/datasheet/1643afb.pdf; ComponentLink3Description: Package Specification; ComponentLink3URL: http://cds.linear.com/docs/en/packaging/05081641_B_GN16.pdf
footprint LT-GN-16_N (SOP, 16-Leads, Body 5x4mm, Pitch 0.635mm, IPC Medium Density)
footprint LT-GN-16_L (SOP, 16-Leads, Body 5x4mm, Pitch 0.635mm, IPC High Density)
footprint LT-GN-16_M (SOP, 16-Leads, Body 5x4mm, Pitch 0.635mm, IPC Low Density)
pins: 1 12VIN (power) "12V Supply Input. It powers all the chip's internal circuitry. A 0.5ohm switch is connected between 12VIN and 12VOUT with a foldback current limit. An undervoltage lockout circuit prevents the switches from turning o(See Datasheet)", 2 VEEIN (power) "-12V Supply Input. A 1.2ohm switch is connected between VEEIN and VEEOUT with a foldback current limit.", 3 3VOUT (in) "Analog Input. Used to monitor the 3.3V output supply voltage. The P\W\R\G\D\ signal cannot go low until the 3VOUT pin exceeds 2.9V typically.", 4 TIMER (in) "Analog Current Fault Inhibit Timing Input. Connect a capacitor from TIMER to GND. With the chip turned off (ON = GND or O\N\ = High) or the internal circuit breaker tripped (F\A\U\L\T\ = GND), the TIMER pin is internally (See Datasheet)", 5 ~{ON} (in) "Digital Input.The LTC1643AL/LTC1643AL-1 have an active low enable, O\N\, and the LTC1643AH has an active high enable, ON. When the ON pin is pulled high or the O\N\ pin pulled low, the GATE pin is pulled high by a 62uA (See Datasheet)", 6 ~{FAULT} (io) "Open-Drain Digital I/O. F\A\U\L\T\ is pulled low when a current limit fault is detected. Current limit faults are ignored while the voltage at the TIMER pin is less than 12VIN - 0.9V. Once the TIMER cycle is complete, (See Datasheet)", 7 ~{PWRGD} (oc) "Open-Drain Digital Power-Good Output. P\W\R\G\D\ remains low while V12VOUT>= 11.4V, V3VOUT>= 3V, V5VOUT >= 4.75V and VEEOUT =< -10.8V. The LTC1643AL-1 has the power good comparators connected to the 12VOUT and VEEOUT pins (See Datasheet)", 8 GND (power) "Chip Ground.", 9 3VIN (in) "3.3V Supply Sense Input. An undervoltage lockout circuit prevents the switches from turning on when the voltage at the 3VIN pin is less than 2.5V typically. If no 3.3V input supply is available, tie 3VIN to the 5VIN pin.", 10 3VSENSE (in) "The 3.3V Current Limit Set Pin. With a sense resistor placed in the supply path between 3VIN and 3VSENSE, the GATE pin voltage will be adjusted to maintain a constant voltage across the sense resistor and a constant current (See Datasheet)", 11 GATE (out) "High Side Gate Drive for the External N-Channel Pass Transistors. Requires an external series RC network for the current limit loop compensation and setting the minimum ramp-up rate. During power-up, the slope of the voltage (See Datasheet)", 12 5VSENSE (in) "5V Current Limit Set Pin. With a sense resistor placed in the supply path between 5VIN and 5VSENSE, the GATE pin voltage will be adjusted to maintain a constant voltage across the sense resistor and a constant current (See Datasheet)", 13 5VIN (in) "Analog Input. Used to monitor the 5V input supply voltage. An undervoltage lockout circuit prevents the switches from turning on when the voltage at the 5VIN pin is less than 2.5V typically.", 14 5VOUT (in) "Analog Input. Used to monitor the 5V output supply voltage. The P\W\R\G\D\ signal cannot go low until the 5VOUT pin exceeds 4.65V typically.", 15 VEEOUT (power) "-12V Supply Output. A 1.2ohm switch is connected between VEEIN and VEEOUT. VEEOUT must exceed -10.8V before the P\W\R\G\D\ signal can go high on the LTC1643AH and LTC1643AL.", 16 12VOUT (power) "12V Supply Output. A 0.5ohm switch is connected between 12VIN and 12VOUT. 12VOUT must exceed 11.4V before the P\W\R\G\D\ signal can go high on the LTC1643AH and LTC1643AL."

## LTC1643AL-1IGN#TR
designator U?
PCI-Bus Hot Swap Controller, 3.3 V, 5 V, +/-12 V Vin, 16-pin SOP (GN-16), -40 to 85 degC, Tape and Reel; Manufacturer: Linear Technology; PartNumber: LTC1643AL-1IGN#TR; Active Limiting: yes; Circuit Breaker Accuracy(%): 24.5; Circuit Breaker Threshold: 53 mV; Circuit Breakers(#): 4; Extended Temp: C, I; Fast Comparator: no; In-Rush Current: Active; DatasheetVersion: Rev. B; PackageVersion: Rev. B, 03/2012; PackageReference: GN-16; PackageDescription: 16-Pin Plastic SSOP, Body 4.9 x 3.9 mm, Pitch 0.635 mm; Supplier 1: Digi-Key; Supplier Part Number 1: LTC1643AL-1IGN#TR-ND; Supplier 2: Newark; Supplier Part Number 2: 56M2798; Fault: yes; Foldback: yes; Packing: Tape and Reel; Power Good: yes; Reset: no; RoHS: FALSE; Vin Range: 3.3 V, 5 V, +/-12 V; Mounting Technology: Surface Mount; ComponentLink1Description: Manufacturer URL; ComponentLink1URL: http://www.linear.com/; ComponentLink2Description: Datasheet; ComponentLink2URL: http://cds.linear.com/docs/en/datasheet/1643afb.pdf; ComponentLink3Description: Package Specification; ComponentLink3URL: http://cds.linear.com/docs/en/packaging/05081641_B_GN16.pdf
footprint LT-GN-16_N (SOP, 16-Leads, Body 5x4mm, Pitch 0.635mm, IPC Medium Density)
footprint LT-GN-16_L (SOP, 16-Leads, Body 5x4mm, Pitch 0.635mm, IPC High Density)
footprint LT-GN-16_M (SOP, 16-Leads, Body 5x4mm, Pitch 0.635mm, IPC Low Density)
pins: 1 12VIN (power) "12V Supply Input. It powers all the chip's internal circuitry. A 0.5ohm switch is connected between 12VIN and 12VOUT with a foldback current limit. An undervoltage lockout circuit prevents the switches from turning o(See Datasheet)", 2 VEEIN (power) "-12V Supply Input. A 1.2ohm switch is connected between VEEIN and VEEOUT with a foldback current limit.", 3 3VOUT (in) "Analog Input. Used to monitor the 3.3V output supply voltage. The P\W\R\G\D\ signal cannot go low until the 3VOUT pin exceeds 2.9V typically.", 4 TIMER (in) "Analog Current Fault Inhibit Timing Input. Connect a capacitor from TIMER to GND. With the chip turned off (ON = GND or O\N\ = High) or the internal circuit breaker tripped (F\A\U\L\T\ = GND), the TIMER pin is internally (See Datasheet)", 5 ~{ON} (in) "Digital Input.The LTC1643AL/LTC1643AL-1 have an active low enable, O\N\, and the LTC1643AH has an active high enable, ON. When the ON pin is pulled high or the O\N\ pin pulled low, the GATE pin is pulled high by a 62uA (See Datasheet)", 6 ~{FAULT} (io) "Open-Drain Digital I/O. F\A\U\L\T\ is pulled low when a current limit fault is detected. Current limit faults are ignored while the voltage at the TIMER pin is less than 12VIN - 0.9V. Once the TIMER cycle is complete, (See Datasheet)", 7 ~{PWRGD} (oc) "Open-Drain Digital Power-Good Output. P\W\R\G\D\ remains low while V12VOUT>= 11.4V, V3VOUT>= 3V, V5VOUT >= 4.75V and VEEOUT =< -10.8V. The LTC1643AL-1 has the power good comparators connected to the 12VOUT and VEEOUT pins (See Datasheet)", 8 GND (power) "Chip Ground.", 9 3VIN (in) "3.3V Supply Sense Input. An undervoltage lockout circuit prevents the switches from turning on when the voltage at the 3VIN pin is less than 2.5V typically. If no 3.3V input supply is available, tie 3VIN to the 5VIN pin.", 10 3VSENSE (in) "The 3.3V Current Limit Set Pin. With a sense resistor placed in the supply path between 3VIN and 3VSENSE, the GATE pin voltage will be adjusted to maintain a constant voltage across the sense resistor and a constant current (See Datasheet)", 11 GATE (out) "High Side Gate Drive for the External N-Channel Pass Transistors. Requires an external series RC network for the current limit loop compensation and setting the minimum ramp-up rate. During power-up, the slope of the voltage (See Datasheet)", 12 5VSENSE (in) "5V Current Limit Set Pin. With a sense resistor placed in the supply path between 5VIN and 5VSENSE, the GATE pin voltage will be adjusted to maintain a constant voltage across the sense resistor and a constant current (See Datasheet)", 13 5VIN (in) "Analog Input. Used to monitor the 5V input supply voltage. An undervoltage lockout circuit prevents the switches from turning on when the voltage at the 5VIN pin is less than 2.5V typically.", 14 5VOUT (in) "Analog Input. Used to monitor the 5V output supply voltage. The P\W\R\G\D\ signal cannot go low until the 5VOUT pin exceeds 4.65V typically.", 15 VEEOUT (power) "-12V Supply Output. A 1.2ohm switch is connected between VEEIN and VEEOUT. VEEOUT must exceed -10.8V before the P\W\R\G\D\ signal can go high on the LTC1643AH and LTC1643AL.", 16 12VOUT (power) "12V Supply Output. A 0.5ohm switch is connected between 12VIN and 12VOUT. 12VOUT must exceed 11.4V before the P\W\R\G\D\ signal can go high on the LTC1643AH and LTC1643AL."

## LTC1643AL-1IGN#TRPBF
designator U?
PCI-Bus Hot Swap Controller, 3.3 V, 5 V, +/-12 V Vin, 16-pin SOP (GN-16), -40 to 85 degC, Pb-Free, Tape and Reel; Manufacturer: Linear Technology; PartNumber: LTC1643AL-1IGN#TRPBF; Active Limiting: yes; Circuit Breaker Accuracy(%): 24.5; Circuit Breaker Threshold: 53 mV; Circuit Breakers(#): 4; Extended Temp: C, I; Fast Comparator: no; In-Rush Current: Active; DatasheetVersion: Rev. B; PackageVersion: Rev. B, 03/2012; PackageReference: GN-16; PackageDescription: 16-Pin Plastic SSOP, Body 4.9 x 3.9 mm, Pitch 0.635 mm; Supplier 1: Digi-Key; Supplier Part Number 1: LTC1643AL-1IGN#TRPBF-ND; Fault: yes; Foldback: yes; Packing: Tape and Reel; Power Good: yes; Reset: no; RoHS: TRUE; Vin Range: 3.3 V, 5 V, +/-12 V; Mounting Technology: Surface Mount; ComponentLink1Description: Manufacturer URL; ComponentLink1URL: http://www.linear.com/; ComponentLink2Description: Datasheet; ComponentLink2URL: http://cds.linear.com/docs/en/datasheet/1643afb.pdf; ComponentLink3Description: Package Specification; ComponentLink3URL: http://cds.linear.com/docs/en/packaging/05081641_B_GN16.pdf
footprint LT-GN-16_N (SOP, 16-Leads, Body 5x4mm, Pitch 0.635mm, IPC Medium Density)
footprint LT-GN-16_L (SOP, 16-Leads, Body 5x4mm, Pitch 0.635mm, IPC High Density)
footprint LT-GN-16_M (SOP, 16-Leads, Body 5x4mm, Pitch 0.635mm, IPC Low Density)
pins: 1 12VIN (power) "12V Supply Input. It powers all the chip's internal circuitry. A 0.5ohm switch is connected between 12VIN and 12VOUT with a foldback current limit. An undervoltage lockout circuit prevents the switches from turning o(See Datasheet)", 2 VEEIN (power) "-12V Supply Input. A 1.2ohm switch is connected between VEEIN and VEEOUT with a foldback current limit.", 3 3VOUT (in) "Analog Input. Used to monitor the 3.3V output supply voltage. The P\W\R\G\D\ signal cannot go low until the 3VOUT pin exceeds 2.9V typically.", 4 TIMER (in) "Analog Current Fault Inhibit Timing Input. Connect a capacitor from TIMER to GND. With the chip turned off (ON = GND or O\N\ = High) or the internal circuit breaker tripped (F\A\U\L\T\ = GND), the TIMER pin is internally (See Datasheet)", 5 ~{ON} (in) "Digital Input.The LTC1643AL/LTC1643AL-1 have an active low enable, O\N\, and the LTC1643AH has an active high enable, ON. When the ON pin is pulled high or the O\N\ pin pulled low, the GATE pin is pulled high by a 62uA (See Datasheet)", 6 ~{FAULT} (io) "Open-Drain Digital I/O. F\A\U\L\T\ is pulled low when a current limit fault is detected. Current limit faults are ignored while the voltage at the TIMER pin is less than 12VIN - 0.9V. Once the TIMER cycle is complete, (See Datasheet)", 7 ~{PWRGD} (oc) "Open-Drain Digital Power-Good Output. P\W\R\G\D\ remains low while V12VOUT>= 11.4V, V3VOUT>= 3V, V5VOUT >= 4.75V and VEEOUT =< -10.8V. The LTC1643AL-1 has the power good comparators connected to the 12VOUT and VEEOUT pins (See Datasheet)", 8 GND (power) "Chip Ground.", 9 3VIN (in) "3.3V Supply Sense Input. An undervoltage lockout circuit prevents the switches from turning on when the voltage at the 3VIN pin is less than 2.5V typically. If no 3.3V input supply is available, tie 3VIN to the 5VIN pin.", 10 3VSENSE (in) "The 3.3V Current Limit Set Pin. With a sense resistor placed in the supply path between 3VIN and 3VSENSE, the GATE pin voltage will be adjusted to maintain a constant voltage across the sense resistor and a constant current (See Datasheet)", 11 GATE (out) "High Side Gate Drive for the External N-Channel Pass Transistors. Requires an external series RC network for the current limit loop compensation and setting the minimum ramp-up rate. During power-up, the slope of the voltage (See Datasheet)", 12 5VSENSE (in) "5V Current Limit Set Pin. With a sense resistor placed in the supply path between 5VIN and 5VSENSE, the GATE pin voltage will be adjusted to maintain a constant voltage across the sense resistor and a constant current (See Datasheet)", 13 5VIN (in) "Analog Input. Used to monitor the 5V input supply voltage. An undervoltage lockout circuit prevents the switches from turning on when the voltage at the 5VIN pin is less than 2.5V typically.", 14 5VOUT (in) "Analog Input. Used to monitor the 5V output supply voltage. The P\W\R\G\D\ signal cannot go low until the 5VOUT pin exceeds 4.65V typically.", 15 VEEOUT (power) "-12V Supply Output. A 1.2ohm switch is connected between VEEIN and VEEOUT. VEEOUT must exceed -10.8V before the P\W\R\G\D\ signal can go high on the LTC1643AH and LTC1643AL.", 16 12VOUT (power) "12V Supply Output. A 0.5ohm switch is connected between 12VIN and 12VOUT. 12VOUT must exceed 11.4V before the P\W\R\G\D\ signal can go high on the LTC1643AH and LTC1643AL."